# EAGLE library part S-8200AAY-M6T1U (library SamacSys_Parts)
Battery Management Lithium-Ion battery protection (1 cell) Source: Datasheet <https://www.ablicinc.com/en/doc/datasheet/battery_protection/S8200A_E.pdf>
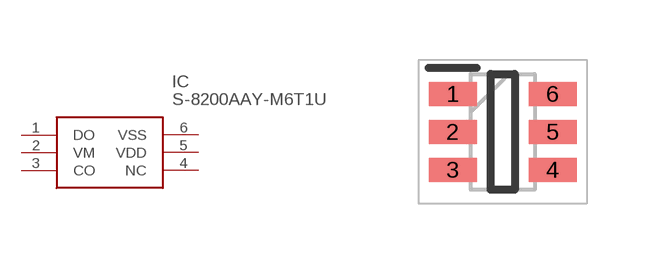
[diagram p1: symbol with the pads of SOT95P275X135-6N; footprint SOT95P275X135-6N]

Designator prefix IC

## S-8200AAY-M6T1U (Description: Battery Management Lithium-Ion battery protection (1 cell); Height: 1.35mm; Manufacturer_Name: ABLIC U.S.A. Inc.; Manufacturer_Part_Number: S-8200AAY-M6T1U; Mouser_Part_Number: 628-S-8200AAY-M6T1U; Mouser_Price-Stock: https://www.mouser.co.uk/ProductDetail/ABLIC/S-8200AAY-M6T1U?qs=Zq5ylnUbLm5R4zZ7J40grw%3D%3D)  [SOT95P275X135-6N]
1  DO
2  VM
3  CO
4  NC  nc
5  VDD
6  VSS

## Footprint SOT95P275X135-6N (pad centres in mm)
SOT236-A
smd 1.2 x 0.6: 1 -1.25,0.95; 2 -1.25,0; 3 -1.25,-0.95; 4 1.25,-0.95; 5 1.25,0; 6 1.25,0.95